# Altium schematic symbol library SCH - POWER - SWITCHMODE - TI TPS51518_RUK_20.SchLib: 1 symbol
Pins are listed as number, name and electrical type; pins without a type are passive.

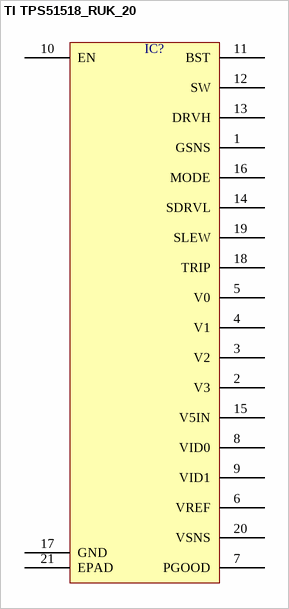
[diagram p0: symbol TI TPS51518_RUK_20]

## TI TPS51518_RUK_20
designator IC?  (value not drawn)
pins: 1 GSNS, 2 V3, 3 V2, 4 V1, 5 V0, 6 VREF, 7 PGOOD, 8 VID0, 9 VID1, 10 EN, 11 BST, 12 SW, 13 DRVH, 14 SDRVL, 15 V5IN, 16 MODE, 17 GND, 18 TRIP, 19 SLEW, 20 VSNS, 21 EPAD